# Altium schematic symbol library LEDT1YEL.Schlib: 1 symbol
Pins are listed as number, name and electrical type; pins without a type are passive.

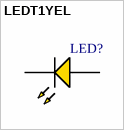
[diagram p0: symbol LEDT1YEL]

## LEDT1YEL
designator LED?  (value not drawn)
pins: 1 A, 2 K
1 alternate drawing of the same symbol